# Altium integrated library others.IntLib: 37 symbols
Pins are listed as number, name and electrical type; pins without a type are passive.

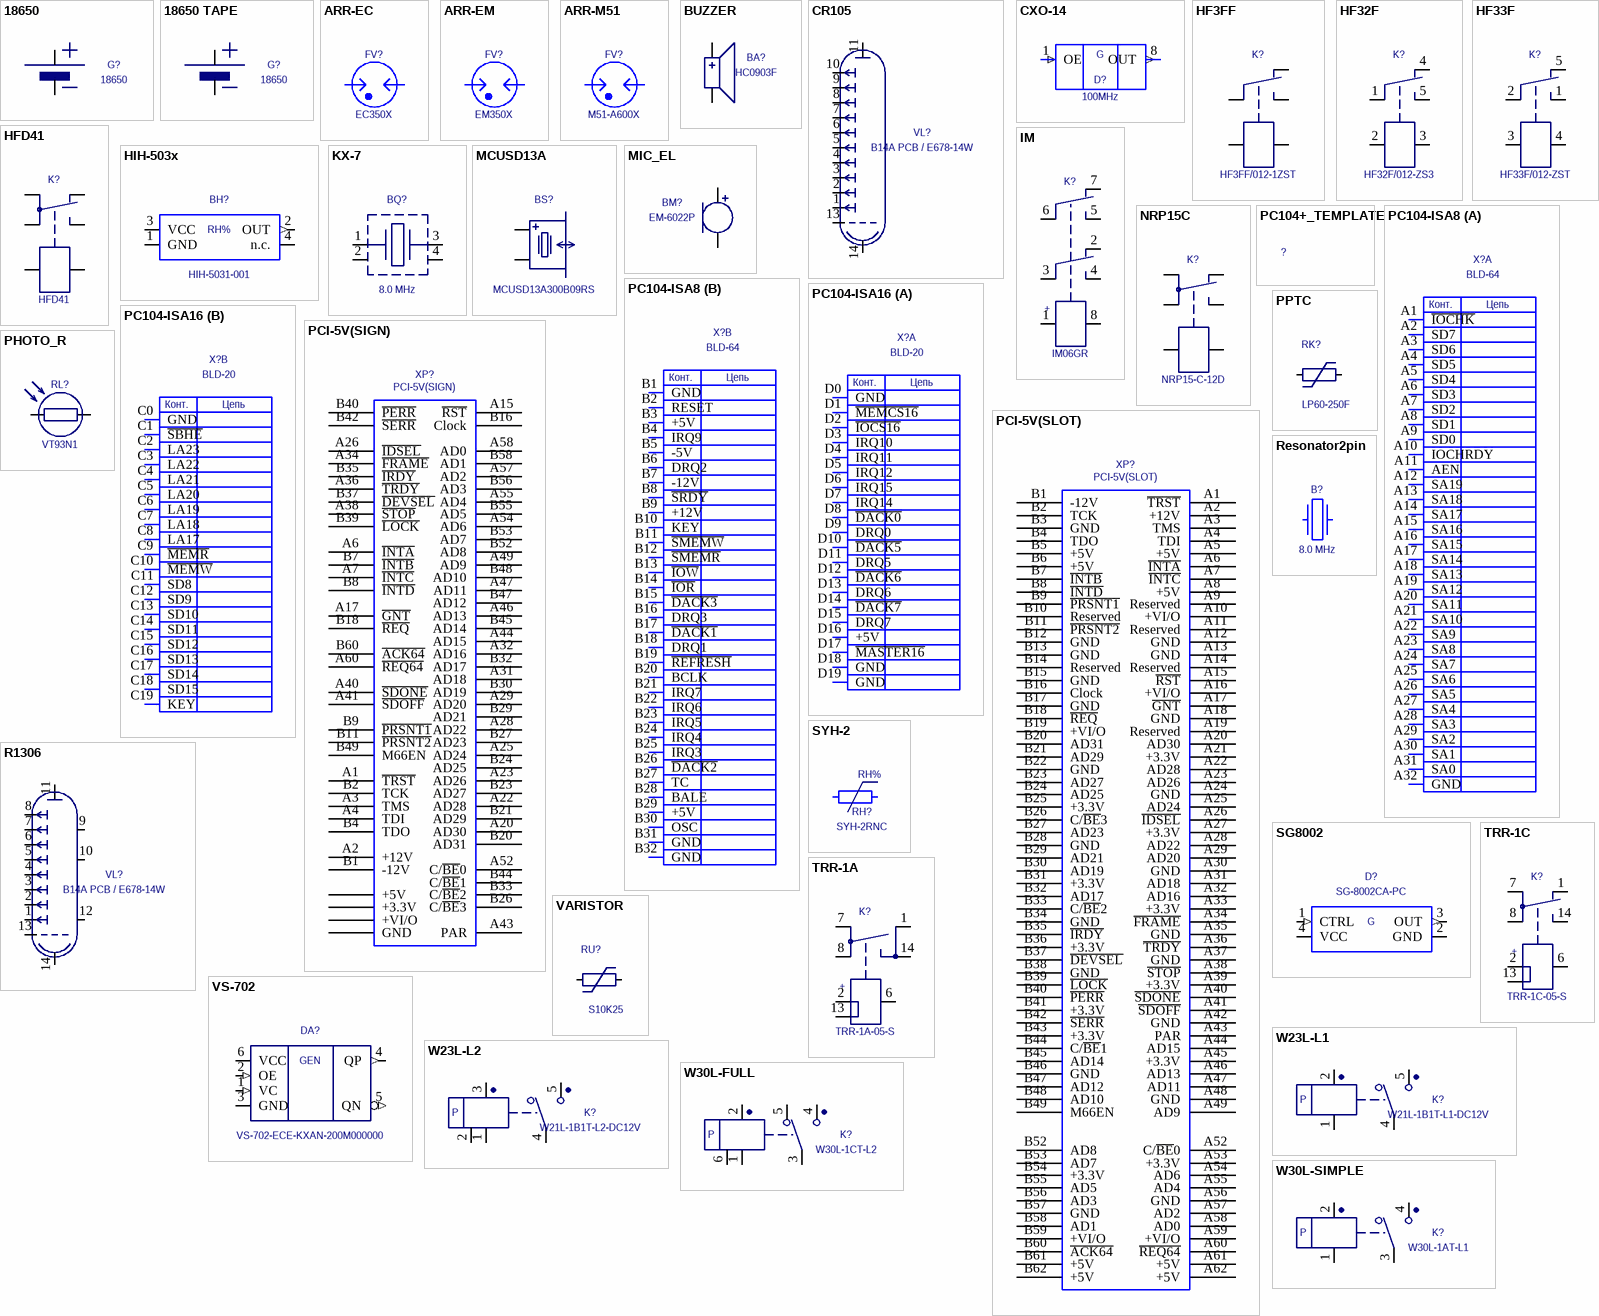
[diagram p0: symbols 18650 to W30L-SIMPLE]

## 18650
designator G?
Battery 18650; Value: 18650
footprint 18650
pins: +3, +4, -3, -4

## 18650 TAPE
designator G?, comment 18650
Battery 18650; Value: 18650
footprint 18650 tape
pins: +3, -3

## ARR-EC
designator FV?, comment EC350X
ARR-EC; Value: EC350X
footprint ARR-6D8
pins: 1 A, 2 A

## ARR-EM
designator FV?, comment EM350X
ARR-EM; Value: EM350X
footprint ARR-6D5.5
pins: 1 A, 2 A

## ARR-M51
designator FV?, comment M51-A600X
ARR-M51; Value: M51-A600X
footprint ARR-5D5
pins: 1 A, 2 A

## BUZZER
designator BA?, comment HC0903F
PCB buzzer; Value: HC0903F
footprint HC09A-SPK (Buzzer)
footprint HC09F-SPK (Buzzer)
footprint MLT-9032 (SMD buzzer)
footprint HCM12A-SPK (Buzzer)
pins: 1 +, 2 -

## CR105
designator VL?, comment B14A PCB / E678-14W
PMT; Value: B14A PCB / E678-14W
footprint B14A
footprint B14A (no 12)
pins: 1 DY1, 2 DY2, 3 DY3, 4 DY4, 5 DY5, 6 DY6, 7 DY7, 8 DY8, 9 DY9, 10 DY10, 11 A, 13 G, 14 K

## CXO-14
designator D?  value 100MHz  (hidden comment: CXO-14)
footprint DIL14-4_CXO-14(Primary)
pins: 1 OE (in), 7 GND (power) hidden, 8 OUT (out), 14 VCC (power) hidden
text: G

## HF3FF
designator K?, comment HF3FF/012-1ZST
Relay 10/15A; Value: HF3FF/012-1ZST
footprint HF3FF
pins: C+, C-, COM, NC, NO

## HF32F
designator K?, comment HF32F/012-ZS3
Relay 3/5A; Value: HF32F/012-ZS3
footprint HF32F
pins: 1 COM, 2 C+, 3 C-, 4 NC, 5 NO

## HF33F
designator K?, comment HF33F/012-ZST
Relay 3/5A; Value: HF33F/012-ZST
footprint HF33F
pins: 1 NO, 2 COM, 3 C+, 4 C-, 5 NC

## HFD41
designator K?
Relay 1A SPDT; Value: HFD41
footprint HFD41
footprint HFD41A
pins: C+, C-, COM, COM2, NC, NO

## HIH-503x
designator BH?, comment HIH-5031-001
Humidity sensor; Value: HIH-5031-001
footprint HIH-503x
pins: 1 GND (power), 2 OUT (out), 3 VCC (power), 4 n.c.
text: RH%

## IM
designator K?, comment IM06GR
Relay signal; Value: IM06GR
footprint IM_GR (Relay signal)
footprint IM_JR (Relay signal)
footprint IM_TS (Relay signal)
footprint IM_NS (Relay signal)
footprint G6K-2 (Relay signal)
footprint G6K-2F (Relay signal)
footprint G6K-2G (Relay signal)
footprint G6S-2 (Relay signal)
footprint G6S-2F (Relay signal)
footprint G6S-2G (Relay signal)
pins: 1 C+, 2 NC, 3 COM, 4 NO, 5 NO, 6 COM, 7 NC, 8 C-
text: +

## KX-7
designator BQ?, comment 8.0 MHz
Resonator 2.5x3.2; Value: 8.0 MHz
footprint SG8002-CE
pins: 1, 2, 3, 4

## MCUSD13A
designator BS?, comment MCUSD13A300B09RS
Ultrasonic transducer; Value: MCUSD13A300B09RS
footprint MCUSD13A
pins: 1 +, 2 -

## MIC_EL
designator BM?, comment EM-6022P
Electret microphone; Value: EM-6022P
footprint MIC6022P
footprint MIC4015P
pins: 1 +, 2 -

## NRP15C
designator K?, comment NRP15-C-12D
Relay 30A SPDT; Value: NRP15-C-12D
footprint NRP15C
footprint NRP17C
pins: C+, C-, COM, COM2, NC, NO

## PC104+_TEMPLATE
designator ?  (value not drawn)
PC104+_TEMPLATE; Value: *
footprint PC104_TEMP
pins: 1 hidden, 2 hidden, 3 hidden, 4 hidden

## PC104-ISA8
designator X?  value BLD-64  (hidden comment: PC104-ISA8)
footprint BLD-64 PC104_PC104-ISA8(Primary)
part A pins: A1 ~{IOCHK}, A2 SD7, A3 SD6, A4 SD5, A5 SD4, A6 SD3, A7 SD2, A8 SD1, A9 SD0, A10 IOCHRDY, A11 AEN, A12 SA19, A13 SA18, A14 SA17, A15 SA16, A16 SA15, A17 SA14, A18 SA13, A19 SA12, A20 SA11, A21 SA10, A22 SA9, A23 SA8, A24 SA7, A25 SA6, A26 SA5, A27 SA4, A28 SA3, A29 SA2, A30 SA1, A31 SA0, A32 GND
part B pins: B1 GND, B2 RESET, B3 +5V, B4 IRQ9, B5 -5V, B6 DRQ2, B7 -12V, B8 ~{SRDY}, B9 +12V, B10 KEY, B11 ~{SMEMW}, B12 ~{SMEMR}, B13 ~{IOW}, B14 ~{IOR}, B15 ~{DACK3}, B16 DRQ3, B17 ~{DACK1}, B18 DRQ1, B19 ~{REFRESH}, B20 BCLK, B21 IRQ7, B22 IRQ6, B23 IRQ5, B24 IRQ4, B25 IRQ3, B26 ~{DACK2}, B27 TC, B28 BALE, B29 +5V, B30 OSC, B31 GND, B32 GND
part A text: Конт.; Цепь
part B text: Конт.; Цепь

## PC104-ISA16
designator X?  value BLD-20  (hidden comment: PC104-ISA16)
footprint BLD-40 PC104_PC104-ISA16(Primary)
part A pins: D0 GND, D1 ~{MEMCS16}, D2 ~{IOCS16}, D3 IRQ10, D4 IRQ11, D5 IRQ12, D6 IRQ15, D7 IRQ14, D8 ~{DACK0}, D9 DRQ0, D10 ~{DACK5}, D11 DRQ5, D12 ~{DACK6}, D13 DRQ6, D14 ~{DACK7}, D15 DRQ7, D16 +5V, D17 ~{MASTER16}, D18 GND, D19 GND
part B pins: C0 GND, C1 ~{SBHE}, C2 LA23, C3 LA22, C4 LA21, C5 LA20, C6 LA19, C7 LA18, C8 LA17, C9 ~{MEMR}, C10 ~{MEMW}, C11 SD8, C12 SD9, C13 SD10, C14 SD11, C15 SD12, C16 SD13, C17 SD14, C18 SD15, C19 KEY
part A text: Конт.; Цепь
part B text: Конт.; Цепь

## PCI-5V(SIGN)
designator XP?
Value: *
footprint PCI-5V_PCI-5V(SIGN)(Primary)
pins: A1 ~{TRST}, A2 +12V (power), A3 TMS, A4 TDI, A5 +5V (power), A6 ~{INTA}, A7 ~{INTC}, A8 +5V (power) hidden, A9 hidden, A10 +VI/O (power), A11 hidden, A12 GND (power) hidden, A13 GND (power) hidden, A14 hidden, A15 ~{RST}, A16 +VI/O (power) hidden, A17 ~{GNT}, A18 GND (power) hidden, A19 hidden, A20 AD30, A21 +3.3V (power), A22 AD28, A23 AD26, A24 GND (power) hidden, A25 AD24, A26 ~{IDSEL}, A27 +3.3V (power) hidden, A28 AD22, A29 AD20, A30 GND (power) hidden, A31 AD18, A32 AD16, A33 +3.3V (power) hidden, A34 ~{FRAME}, A35 GND (power) hidden, A36 ~{TRDY}, A37 GND (power) hidden, A38 ~{STOP}, A39 +3.3V (power) hidden, A40 ~{SDONE}, A41 ~{SDOFF}, A42 GND (power) hidden, A43 PAR, A44 AD15, A45 +3.3V (power) hidden, A46 AD13, A47 AD11, A48 GND (power) hidden, A49 AD9, A52 C/~{BE}0, A53 +3.3V (power) hidden, A54 AD6, A55 AD4, A56 GND (power) hidden, A57 AD2, A58 AD0, A59 +VI/O (power) hidden, A60 ~{REQ64}, A61 +5V (power) hidden, A62 +5V (power) hidden, B1 -12V (power), B2 TCK, B3 GND, B4 TDO, B5 +5V (power) hidden, B6 +5V (power) hidden, B7 ~{INTB}, B8 ~{INTD}, B9 ~{PRSNT1}, B10 hidden, B11 ~{PRSNT2}, B12 GND (power) hidden, B13 GND (power) hidden, B14 hidden, B15 GND (power) hidden, B16 Clock, B17 GND (power) hidden, B18 ~{REQ}, B19 +VI/O (power) hidden, B20 AD31, B21 AD29, B22 GND (power) hidden, B23 AD27, B24 AD25, B25 +3.3V (power) hidden, B26 C/~{BE}3, B27 AD23, B28 GND (power) hidden, B29 AD21, B30 AD19, B31 +3.3V (power) hidden, B32 AD17, B33 C/~{BE}2, B34 GND (power) hidden, B35 ~{IRDY}, B36 +3.3V (power) hidden, B37 ~{DEVSEL}, B38 GND (power) hidden, B39 ~{LOCK}, B40 ~{PERR}, B41 +3.3V (power) hidden, B42 ~{SERR}, B43 +3.3V (power) hidden, B44 C/~{BE}1, B45 AD14, B46 GND (power) hidden, B47 AD12, B48 AD10, B49 M66EN, B52 AD8, B53 AD7, B54 +3.3V (power) hidden, B55 AD5, B56 AD3, B57 GND (power) hidden, B58 AD1, B59 +VI/O (power) hidden, B60 ~{ACK64}, B61 +5V (power) hidden, B62 +5V (power) hidden

## PCI-5V(SLOT)
designator XP?
Value: *
footprint PCI-5V_PCI-5V(SLOT)(Primary)
pins: A1 ~{TRST}, A2 +12V (power), A3 TMS, A4 TDI, A5 +5V (power), A6 ~{INTA}, A7 ~{INTC}, A8 +5V (power), A9 Reserved, A10 +VI/O (power), A11 Reserved, A12 GND (power), A13 GND (power), A14 Reserved, A15 ~{RST}, A16 +VI/O (power), A17 ~{GNT}, A18 GND (power), A19 Reserved, A20 AD30, A21 +3.3V (power), A22 AD28, A23 AD26, A24 GND (power), A25 AD24, A26 ~{IDSEL}, A27 +3.3V (power), A28 AD22, A29 AD20, A30 GND (power), A31 AD18, A32 AD16, A33 +3.3V (power), A34 ~{FRAME}, A35 GND (power), A36 ~{TRDY}, A37 GND (power), A38 ~{STOP}, A39 +3.3V (power), A40 ~{SDONE}, A41 ~{SDOFF}, A42 GND (power), A43 PAR, A44 AD15, A45 +3.3V (power), A46 AD13, A47 AD11, A48 GND (power), A49 AD9, A52 C/~{BE}0, A53 +3.3V (power), A54 AD6, A55 AD4, A56 GND (power), A57 AD2, A58 AD0, A59 +VI/O (power), A60 ~{REQ64}, A61 +5V (power), A62 +5V (power), B1 -12V (power), B2 TCK, B3 GND, B4 TDO, B5 +5V (power), B6 +5V (power), B7 ~{INTB}, B8 ~{INTD}, B9 ~{PRSNT1}, B10 Reserved, B11 ~{PRSNT2}, B12 GND (power), B13 GND (power), B14 Reserved, B15 GND (power), B16 Clock, B17 GND (power), B18 ~{REQ}, B19 +VI/O (power), B20 AD31, B21 AD29, B22 GND (power), B23 AD27, B24 AD25, B25 +3.3V (power), B26 C/~{BE}3, B27 AD23, B28 GND (power), B29 AD21, B30 AD19, B31 +3.3V (power), B32 AD17, B33 C/~{BE}2, B34 GND (power), B35 ~{IRDY}, B36 +3.3V (power), B37 ~{DEVSEL}, B38 GND (power), B39 ~{LOCK}, B40 ~{PERR}, B41 +3.3V (power), B42 ~{SERR}, B43 +3.3V (power), B44 C/~{BE}1, B45 AD14, B46 GND (power), B47 AD12, B48 AD10, B49 M66EN, B52 AD8, B53 AD7, B54 +3.3V (power), B55 AD5, B56 AD3, B57 GND (power), B58 AD1, B59 +VI/O (power), B60 ~{ACK64}, B61 +5V (power), B62 +5V (power)

## PHOTO_R
designator RL?, comment VT93N1
Photoconductive sensor; Value: VT93N1
footprint VT900
pins: 1, 2

## PPTC
designator RK?, comment LP60-250F
PPTC; Value: LP60-250F
footprint PTC14x5
footprint PTC20x10
footprint MF-SM 8x6.7 (PTC fuse)
footprint MF-SM 6.7x5.4 (PTC fuse)
footprint R1206
footprint R0805
footprint R1210
footprint R2010
footprint PTC8x5
footprint PTC10x5
pins: 1, 2

## R1306
designator VL?, comment B14A PCB / E678-14W
PMT; Value: B14A PCB / E678-14W
footprint B14A
pins: 1 DY1, 2 DY2, 3 DY3, 4 DY4, 5 DY5, 6 DY6, 7 DY7, 8 DY8, 9 n.c., 10 n.c., 11 A, 12 n.c., 13 G, 14 K

## Resonator2pin
designator B?, comment 8.0 MHz
2-pin resonator; Value: 8.0 MHz
footprint HC49/S
footprint HC49/S-SMD
footprint DT-26
footprint DT-38
footprint Q3.2x1.5
footprint Q5x3.2
pins: 1, 2

## SG8002
designator D?, comment SG-8002CA-PC
SG8002; Value: SG-8002CA-PC
footprint SG8002-CA
footprint SG8002-CE
footprint SG8002-5X3
footprint SG8002-DB
footprint SG8002-DC
footprint SG8002-JA
footprint SG8002-JC
footprint SG8002-JF
footprint SG8002-LB
pins: 1 CTRL (in), 2 GND (power), 3 OUT (out), 4 VCC (power)
text: G

## SYH-2
designator RH?, comment SYH-2RNC
Humidity sensor; Value: SYH-2RNC
footprint SYH-2RNC
footprint SYH-2RNC(SMD)
pins: 1, 2
text: RH%

## TRR-1A
designator K?, comment TRR-1A-05-S
Relay 1A SPDT; Value: TRR-1A-05-S
footprint DIP14S-1267
footprint DIP14-1267
pins: 1 NC, 2 C+, 6 C-, 7 COM2, 8 COM, 13 C+, 14 NO
text: +

## TRR-1C
designator K?, comment TRR-1C-05-S
Relay 1A SPDT; Value: TRR-1C-05-S
footprint DIP14S-1267
footprint DIP14-1267
pins: 1 NC, 2 C+, 6 C-, 7 COM2, 8 COM, 13 C+, 14 NO
text: +

## VARISTOR
designator RU?, comment S10K25
VARISTOR; Value: S10K25
footprint VAR10x4
footprint VAR14x4
footprint VAR20x5
pins: 1, 2

## VS-702
designator DA?, comment VS-702-ECE-KXAN-200M000000
VS-702; Value: VS-702-ECE-KXAN-200M000000
footprint GEN_CA6
pins: 1 VC (in), 2 OE (in), 3 GND (power), 4 QP (out), 5 QN (out), 6 VCC (power)
text: GEN

## W23L-L1
designator K?, comment W21L-1B1T-L1-DC12V
Relay 60-90A; Value: W21L-1B1T-L1-DC12V
footprint W23L-L1 (Latching relay)
footprint W21L-L1 (Latching relay)
pins: 1 C-, 2 C+, 4 COM, 5 NO
text: P

## W23L-L2
designator K?, comment W21L-1B1T-L2-DC12V
Relay 60-90A; Value: W21L-1B1T-L2-DC12V
footprint W23L-L2 (Latching relay)
footprint W21L-L2 (Latching relay)
pins: 1 C-, 2 C, 3 C+, 4 COM, 5 NO
text: P

## W30L-FULL
designator K?, comment W30L-1CT-L2
Relay 30/50A; Value: W30L-1CT-L2
footprint W30L-FULL (Latching relay)
pins: 1 C-, 2 C+, 3 COM, 4 NO, 5 NC, 6 C
text: P

## W30L-SIMPLE
designator K?, comment W30L-1AT-L1
Relay 30/50A; Value: W30L-1AT-L1
footprint W30L-SIMPLE (Latching relay)
pins: 1 C-, 2 C+, 3 COM, 4 NO
text: P